# Altium integrated library 39299044.IntLib: 2 symbols
Pins are listed as number, name and electrical type; pins without a type are passive.

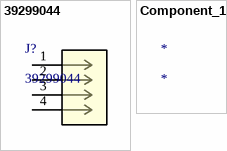
[diagram p0: symbols 39299044 to Component_1]

## 39299044
designator J?
No Description Available; Mfr_Name: Molex Connector Corporation; Copyright: Copyright (C) 2022 Ultra Librarian. All rights reserved.; Manufacturer_Part_Number: 39299044; RefDes: RefDes; Type: DEV
footprint CON_39299044
pins: 1, 2, 3, 4

## Component_1
designator *